# Altium footprint library BC547_TO-92-3_ONS.PcbLib: 1 footprints
Each footprint in its own frame and in the unit in brackets; x right, y up, seen from the top. Pads: shape width x height; smd on the part's side, far side on the other; paste and mask are expansions set on the pad; w line width, h text height; cw(c..) or ccw(c..) is an arc to the next point about the centre after c.
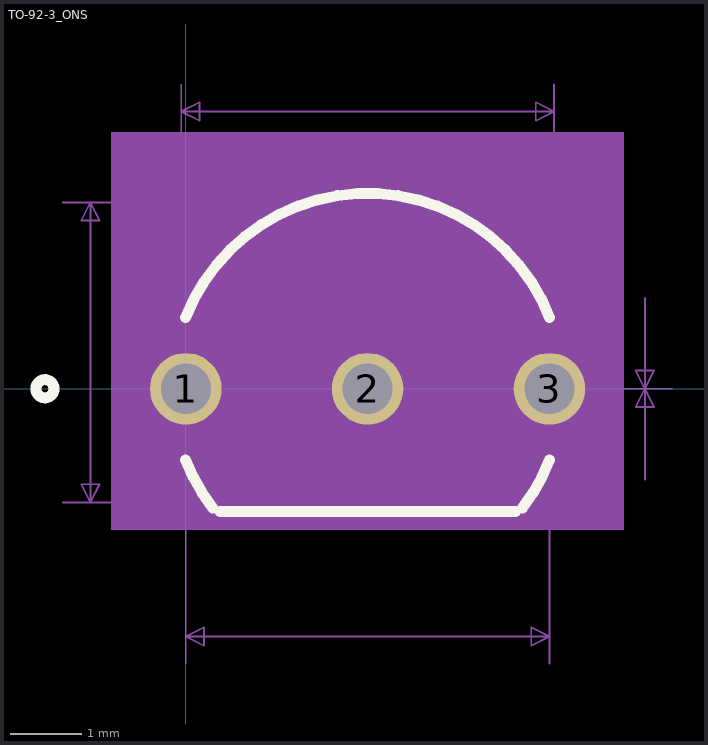
[diagram p0: the footprint, top view; thin cyan lines are the x and y axes]

## TO-92-3_ONS [mm]
pads (3):
  round 1 / inner round 1.321 / far side round 1 hole 0.7 mask+0: 1(0,0) 2(2.54,0) 3(5.08,0)
Top Overlay:
  circle w0.152: c-1.968,0 r0.127
  lines w0.152: -0.003,-0.993 ccw(c2.54,0) 0.376,-1.665 ; -0.003,0.993 cw(c2.54,0) 5.083,0.993 ; 0.476,-1.714 4.604,-1.714 ; 4.704,-1.665 ccw(c2.54,0) 5.083,-0.993
Mechanical 5:
  region: -1.041,3.581 6.121,3.581 6.121,-1.968 -1.041,-1.968
Mechanical 7:
  lines w0.025: -1.714,-1.587 2.54,-1.587 ; -1.714,2.603 2.54,2.603 ; -0.064,0 -0.064,4.255 ; 0,-3.842 0,0 ; 2.794,0 6.794,0 5.08,0 5.08,-3.842 ; 5.143,0 5.143,4.255 ; 6.413,-1.27 6.413,0 ; 6.413,1.27 6.413,0 ; -1.333,-1.587 -1.333,2.603 ; -1.333,-1.587 -1.46,-1.333 -1.206,-1.333 -1.333,-1.587 ; -1.333,2.603 -1.46,2.349 -1.206,2.349 -1.333,2.603 ; -0.064,3.873 5.143,3.873 ; -0.064,3.873 0.191,4 0.191,3.746 -0.064,3.873 ; 0,-3.461 5.08,-3.461 ; 0,-3.461 0.254,-3.334 0.254,-3.588 0,-3.461 ; 5.08,-3.461 4.826,-3.334 4.826,-3.588 5.08,-3.461 ; 5.143,3.873 4.889,4 4.889,3.746 5.143,3.873 ; 6.413,0 6.286,0.254 6.54,0.254 6.413,0 ; 6.413,0 6.286,-0.254 6.54,-0.254 6.413,0
  text "Pinout: 1, 2, 3" at -2.222,-6.921 h1.27
  text "Default Padstyle: c132h81" at -5.397,-8.445 h1.27
  text "Alt 1 Padstyle: b152_229h76" at -6.032,-11.493 h1.27
  text "Alt 2 Padstyle: b229_152h76" at -6.032,-13.018 h1.27
  text "0.205in/5.207mm" at 0.159,4.381 h0.64
  text "0in/0mm" at 6.921,-0.318 h0.64
  text "0.2in/5.08mm" at 0.635,-4.604 h0.64
  text "0.165in/4.191mm" at -6.604,-0.318 h0.64
Mechanical 13:
  circle w0: c0.191,0 r0.127
  lines w0: 0.476,-1.587 cw(c2.54,0) 4.604,-1.587
  lines w0.025: 0.476,-1.587 4.604,-1.587
  lines w0.152: -0.254,0 0.254,0 ; 0,-0.254 0,0.254
Mechanical 15:
  region: 5.994,-1.841 -0.914,-1.841 -0.914,3.454 5.994,3.454
  lines w0.152: -0.914,-1.841 -0.914,3.454 5.994,3.454 5.994,-1.841 -0.914,-1.841
3D body "TO-92-3_ONS.step": height 3.3, standoff -4.77, extent -0.319,-1.075 5.319,2.608
3D body: height 0.25, standoff 0, extent 0,0 0.254,0.254